# EAGLE library part MAT04 (library transistors)
MAT04: Quad matched NPN transistor (Analog Devices) 40V Uce, 30mA Ic, 400-800 hfe 200µV offset, 3nV/rt(Hz) noise, 300MHz GBW
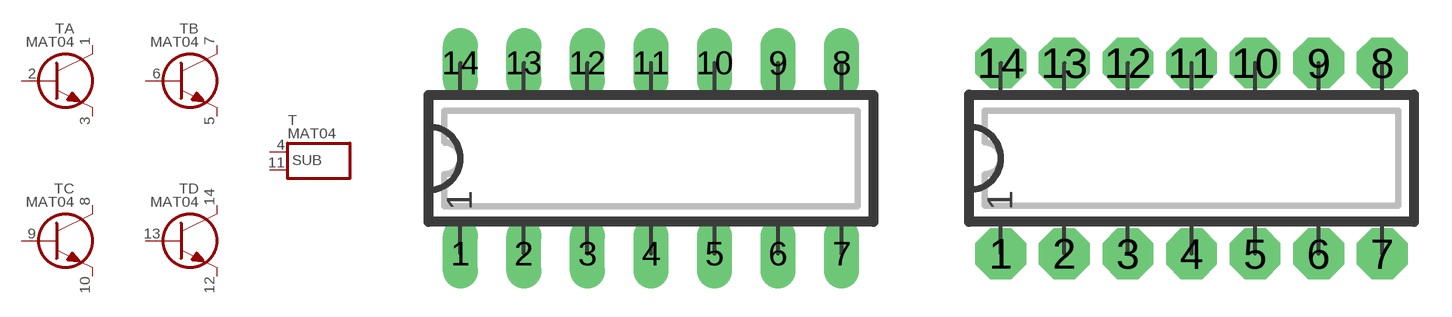
[diagram p3: symbol with the pads of DIP14L; footprints DIP14L, DIP14N]

Designator prefix T; gates A=TNPN B=TNPN C=TNPN D=TNPN S=SUB

## MAT04  [DIP14L]
1  A:C
2  A:B
3  A:E
4  S:SUB
5  B:E
6  B:B
7  B:C
8  C:C
9  C:B
10  C:E
11  S:SUB
12  D:E
13  D:B
14  D:C

## MAT04L  [DIP14L]
Pads as for DIP14L

## MAT04N  [DIP14N]
Pads as for DIP14L

## MAT04R  [DIP14R]
Pads as for DIP14L

## MAT04S  [SO14]
Pads as for DIP14L

## Footprint DIP14L (pad centres in mm)
DIP-14, long pads Standard IC package, 14 pins
drill 0.813 pad 1.397 long: 1 0,0; 2 2.54,0; 3 5.08,0; 4 7.62,0; 5 10.16,0; 6 12.7,0; 7 15.24,0; 8 15.24,7.62; 9 12.7,7.62; 10 10.16,7.62; 11 7.62,7.62; 12 5.08,7.62; 13 2.54,7.62; 14 0,7.62

## Footprint DIP14N (pad centres in mm)
DIP-14 Standard IC package, 14 pins
drill 0.813 pad 2.032 octagon: 1 0,0; 2 2.54,0; 3 5.08,0; 4 7.62,0; 5 10.16,0; 6 12.7,0; 7 15.24,0; 8 15.24,7.62; 9 12.7,7.62; 10 10.16,7.62; 11 7.62,7.62; 12 5.08,7.62; 13 2.54,7.62; 14 0,7.62

## Footprint DIP14R (pad centres in mm)
DIP-14, reduced pads Standard IC package, 14 pins
drill 0.813 pad 1.27 square: 1 0,0
drill 0.813 pad 1.397 square: 2 2.54,0; 3 5.08,0; 4 7.62,0; 5 10.16,0; 6 12.7,0; 7 15.24,0; 8 15.24,7.62; 9 12.7,7.62; 10 10.16,7.62; 11 7.62,7.62; 12 5.08,7.62; 13 2.54,7.62; 14 0,7.62

## Footprint SO14 (pad centres in mm)
SO-14, SMD SOIC IC package, 14 pins
smd 0.635 x 1.778: 1 -3.81,-2.857; 2 -2.54,-2.857; 3 -1.27,-2.857; 4 0,-2.857; 5 1.27,-2.857; 6 2.54,-2.857; 7 3.81,-2.857; 8 3.81,2.857; 9 2.54,2.857; 10 1.27,2.857; 11 0,2.857; 12 -1.27,2.857; 13 -2.54,2.857; 14 -3.81,2.857